# Altium integrated library con-rib.IntLib: 15 symbols
Pins are listed as number, name and electrical type; pins without a type are passive.

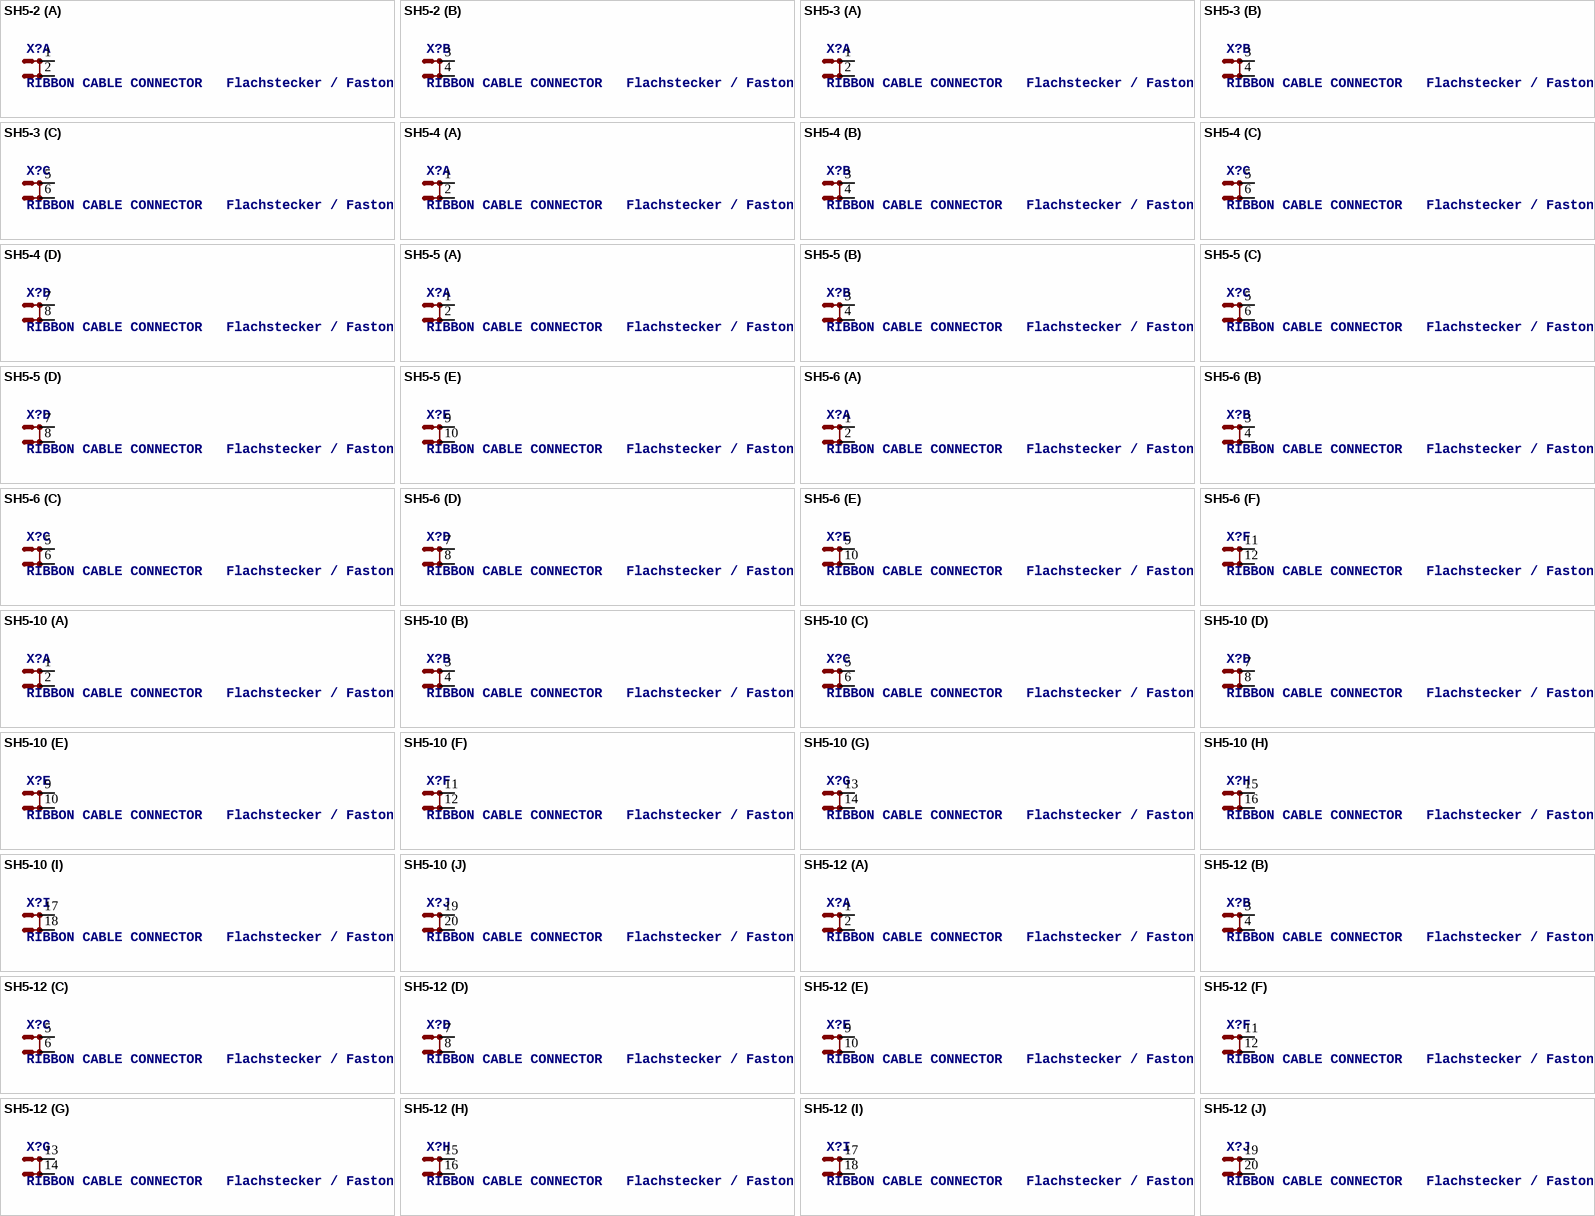
[diagram p0: symbols SH5-2 to SH5-12]

## SH5-2
designator X?, comment RIBBON CABLE CONNECTOR   Flachstecker / Faston
OC_FARNELL: unknown; OC_NEWARK: unknown
footprint SH5-2
part A pins: 1, 2
part B pins: 3 1, 4 2

## SH5-3
designator X?, comment RIBBON CABLE CONNECTOR   Flachstecker / Faston
OC_FARNELL: unknown; OC_NEWARK: unknown
footprint SH5-3
part A pins: 1, 2
part B pins: 3 1, 4 2
part C pins: 5 1, 6 2

## SH5-4
designator X?, comment RIBBON CABLE CONNECTOR   Flachstecker / Faston
OC_FARNELL: unknown; OC_NEWARK: unknown
footprint SH5-4
part A pins: 1, 2
part B pins: 3 1, 4 2
part C pins: 5 1, 6 2
part D pins: 7 1, 8 2

## SH5-5
designator X?, comment RIBBON CABLE CONNECTOR   Flachstecker / Faston
OC_FARNELL: unknown; OC_NEWARK: unknown
footprint SH5-5
part A pins: 1, 2
part B pins: 3 1, 4 2
part C pins: 5 1, 6 2
part D pins: 7 1, 8 2
part E pins: 9 1, 10 2

## SH5-6
designator X?, comment RIBBON CABLE CONNECTOR   Flachstecker / Faston
OC_FARNELL: unknown; OC_NEWARK: unknown
footprint SH5-6
part A pins: 1, 2
part B pins: 3 1, 4 2
part C pins: 5 1, 6 2
part D pins: 7 1, 8 2
part E pins: 9 1, 10 2
part F pins: 11 1, 12 2

## SH5-10
designator X?, comment RIBBON CABLE CONNECTOR   Flachstecker / Faston
OC_FARNELL: unknown; OC_NEWARK: unknown
footprint SH5-10
part A pins: 1, 2
part B pins: 3 1, 4 2
part C pins: 5 1, 6 2
part D pins: 7 1, 8 2
part E pins: 9 1, 10 2
part F pins: 11 1, 12 2
part G pins: 13 1, 14 2
part H pins: 15 1, 16 2
part I pins: 17 1, 18 2
part J pins: 19 1, 20 2

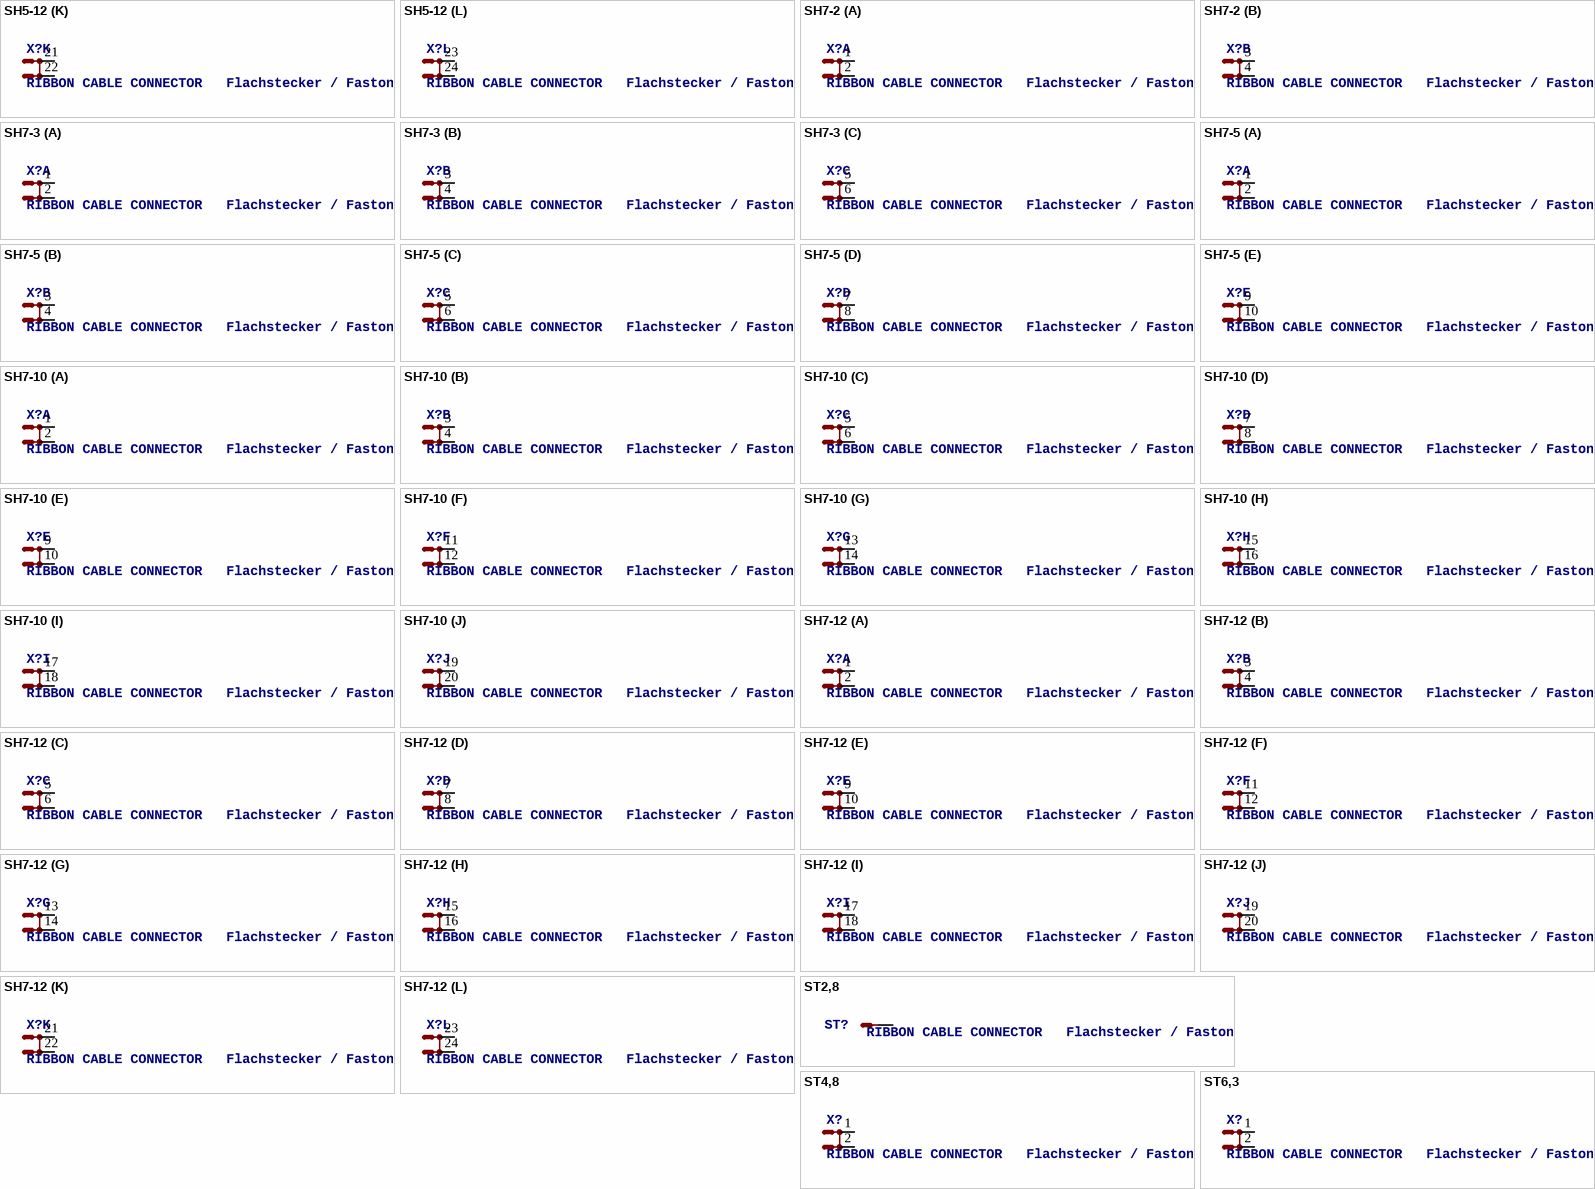
[diagram p1: symbols SH5-12 to ST6,3]

## SH5-12
designator X?, comment RIBBON CABLE CONNECTOR   Flachstecker / Faston
OC_FARNELL: unknown; OC_NEWARK: unknown
footprint SH5-12
part A pins: 1, 2
part B pins: 3 1, 4 2
part C pins: 5 1, 6 2
part D pins: 7 1, 8 2
part E pins: 9 1, 10 2
part F pins: 11 1, 12 2
part G pins: 13 1, 14 2
part H pins: 15 1, 16 2
part I pins: 17 1, 18 2
part J pins: 19 1, 20 2
part K pins: 21 1, 22 2
part L pins: 23 1, 24 2

## SH7-2
designator X?, comment RIBBON CABLE CONNECTOR   Flachstecker / Faston
OC_FARNELL: unknown; OC_NEWARK: unknown
footprint SH7-2
part A pins: 1, 2
part B pins: 3 1, 4 2

## SH7-3
designator X?, comment RIBBON CABLE CONNECTOR   Flachstecker / Faston
OC_FARNELL: unknown; OC_NEWARK: unknown
footprint SH7-3
part A pins: 1, 2
part B pins: 3 1, 4 2
part C pins: 5 1, 6 2

## SH7-5
designator X?, comment RIBBON CABLE CONNECTOR   Flachstecker / Faston
OC_FARNELL: unknown; OC_NEWARK: unknown
footprint SH7-5
part A pins: 1, 2
part B pins: 3 1, 4 2
part C pins: 5 1, 6 2
part D pins: 7 1, 8 2
part E pins: 9 1, 10 2

## SH7-10
designator X?, comment RIBBON CABLE CONNECTOR   Flachstecker / Faston
OC_FARNELL: unknown; OC_NEWARK: unknown
footprint SH7-10
part A pins: 1, 2
part B pins: 3 1, 4 2
part C pins: 5 1, 6 2
part D pins: 7 1, 8 2
part E pins: 9 1, 10 2
part F pins: 11 1, 12 2
part G pins: 13 1, 14 2
part H pins: 15 1, 16 2
part I pins: 17 1, 18 2
part J pins: 19 1, 20 2

## SH7-12
designator X?, comment RIBBON CABLE CONNECTOR   Flachstecker / Faston
OC_FARNELL: unknown; OC_NEWARK: unknown
footprint SH7-12
part A pins: 1, 2
part B pins: 3 1, 4 2
part C pins: 5 1, 6 2
part D pins: 7 1, 8 2
part E pins: 9 1, 10 2
part F pins: 11 1, 12 2
part G pins: 13 1, 14 2
part H pins: 15 1, 16 2
part I pins: 17 1, 18 2
part J pins: 19 1, 20 2
part K pins: 21 1, 22 2
part L pins: 23 1, 24 2

## ST2,8
designator ST?, comment RIBBON CABLE CONNECTOR   Flachstecker / Faston
OC_FARNELL: unknown; OC_NEWARK: unknown
footprint ST2,8
pins: 1 ST

## ST4,8
designator X?, comment RIBBON CABLE CONNECTOR   Flachstecker / Faston
OC_FARNELL: unknown; OC_NEWARK: unknown
footprint ST4,8
pins: 1, 2

## ST6,3
designator X?, comment RIBBON CABLE CONNECTOR   Flachstecker / Faston
OC_FARNELL: unknown; OC_NEWARK: unknown
footprint ST6,3
pins: 1, 2